# EAGLE library part MAX5820 (library CEDTv76)
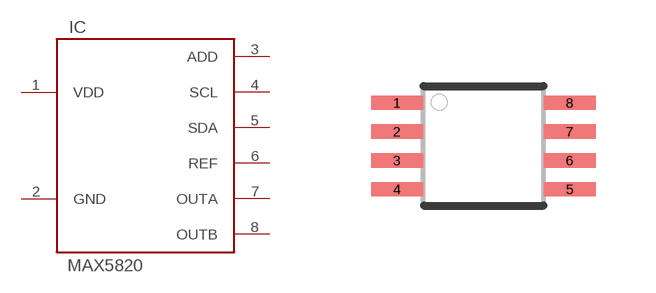
[diagram p32: symbol with the pads of SOIC; footprint SOIC]

Designator prefix IC

## MAX5820SMD  [SOIC]
1  VDD  pwr
2  GND  pwr
3  ADD
4  SCL
5  SDA
6  REF
7  OUTA
8  OUTB

## Footprint SOIC (pad centres in mm)
smd 1.3 x 0.36: 1 -2.16,1.08; 2 -2.16,0.36; 3 -2.16,-0.36; 4 -2.16,-1.08; 5 2.16,-1.08; 6 2.16,-0.36; 7 2.16,0.36; 8 2.16,1.08